# EAGLE library part NC7SZ175P6 (library Fairchild_By_element14_Batch_1)
D Flip Flop
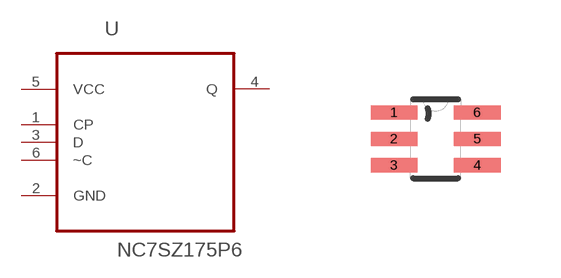
[diagram p353: symbol with the pads of SOT65P210X110-6N; footprint SOT65P210X110-6N]

Designator prefix U

## NC7SZ175P6 (MPN: NC7SZ175P6; OC_FARNELL: 1471001; OC_NEWARK: 34C1569; PACKAGE: SC-70-6; SUPPLIER: FAIRCHILD SEMICONDUCTOR)  [SOT65P210X110-6N]
1  CP  in
2  GND  pas
3  D  in
4  Q  out
5  VCC  pwr
6  ~C  in

## Footprint SOT65P210X110-6N (pad centres in mm)
smd 1.168 x 0.356: 1 -1.041,0.66; 2 -1.041,0; 3 -1.041,-0.66; 4 1.041,-0.66; 5 1.041,0; 6 1.041,0.66